# Altium schematic symbol library CR2032.SchLib: 1 symbol
Pins are listed as number, name and electrical type; pins without a type are passive.

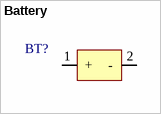
[diagram p0: symbol Battery]

## Battery
designator BT?
Cell Holder for CR2032
footprint PCB_Battery (Cell Holder for CR2032)
pins: 1 + (power), 2 - (power)